# EAGLE library part XCV200E_FG456 (library xilinx-xcv)
xcv200e_fg456 edit this description Auto generated by make-symbol-device-package-bsdl.ulp Rev. 26 Source: xcv200e_fg456.bsd
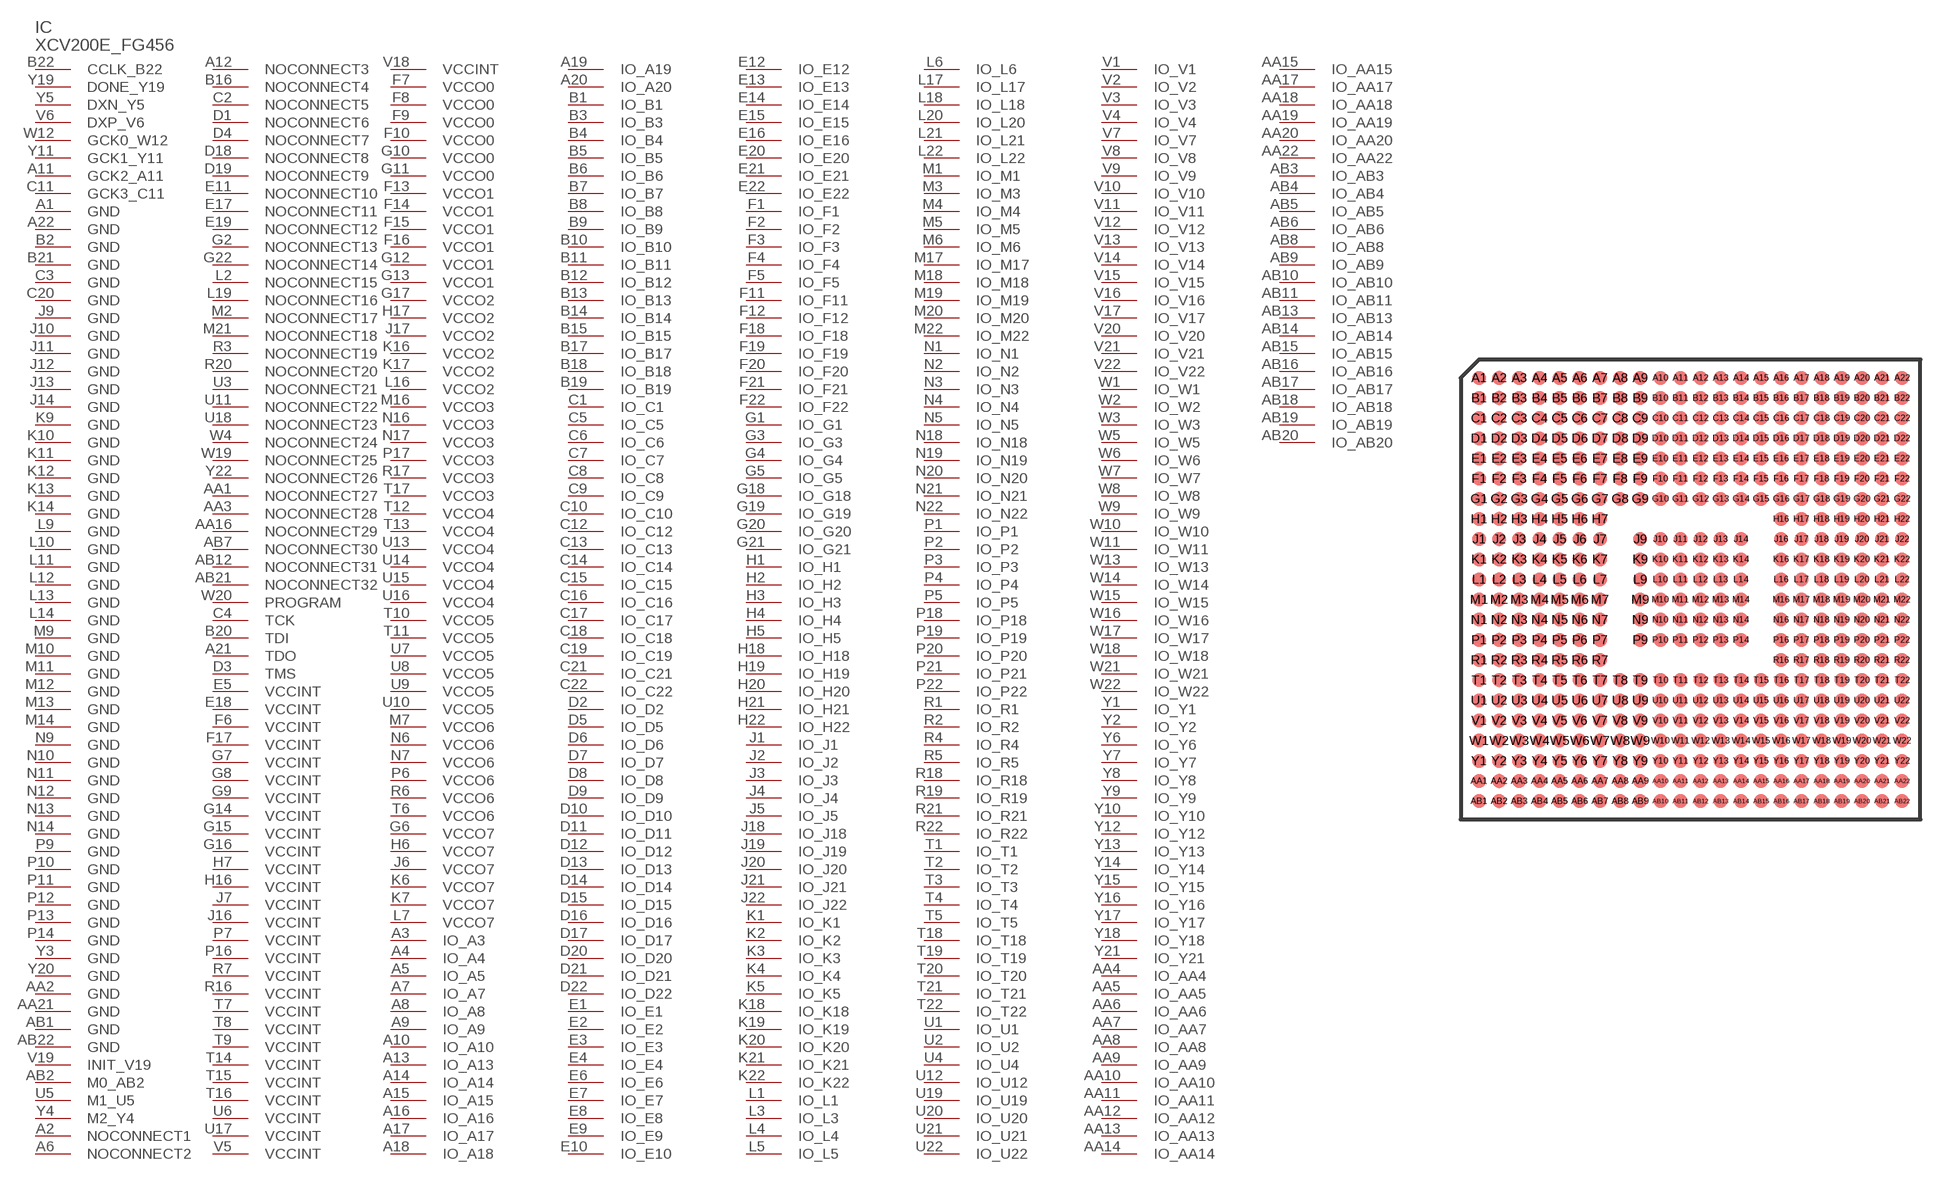
[diagram p58: symbol with the pads of FG456; footprint FG456]

Designator prefix IC

## XCV200E_FG456 (OC_FARNELL: unknown; OC_NEWARK: unknown)  [FG456]
A1  GND  pwr
A2  NOCONNECT1  pas
A3  IO_A3
A4  IO_A4
A5  IO_A5
A6  NOCONNECT2  pas
A7  IO_A7
A8  IO_A8
A9  IO_A9
A10  IO_A10
A11  GCK2_A11  in
A12  NOCONNECT3  pas
A13  IO_A13
A14  IO_A14
A15  IO_A15
A16  IO_A16
A17  IO_A17
A18  IO_A18
A19  IO_A19
A20  IO_A20
A21  TDO  out
A22  GND  pwr
AA1  NOCONNECT27  pas
AA2  GND  pwr
AA3  NOCONNECT28  pas
AA4  IO_AA4
AA5  IO_AA5
AA6  IO_AA6
AA7  IO_AA7
AA8  IO_AA8
AA9  IO_AA9
AA10  IO_AA10
AA11  IO_AA11
AA12  IO_AA12
AA13  IO_AA13
AA14  IO_AA14
AA15  IO_AA15
AA16  NOCONNECT29  pas
AA17  IO_AA17
AA18  IO_AA18
AA19  IO_AA19
AA20  IO_AA20
AA21  GND  pwr
AA22  IO_AA22
AB1  GND  pwr
AB2  M0_AB2  in
AB3  IO_AB3
AB4  IO_AB4
AB5  IO_AB5
AB6  IO_AB6
AB7  NOCONNECT30  pas
AB8  IO_AB8
AB9  IO_AB9
AB10  IO_AB10
AB11  IO_AB11
AB12  NOCONNECT31  pas
AB13  IO_AB13
AB14  IO_AB14
AB15  IO_AB15
AB16  IO_AB16
AB17  IO_AB17
AB18  IO_AB18
AB19  IO_AB19
AB20  IO_AB20
AB21  NOCONNECT32  pas
AB22  GND  pwr
B1  IO_B1
B2  GND  pwr
B3  IO_B3
B4  IO_B4
B5  IO_B5
B6  IO_B6
B7  IO_B7
B8  IO_B8
B9  IO_B9
B10  IO_B10
B11  IO_B11
B12  IO_B12
B13  IO_B13
B14  IO_B14
B15  IO_B15
B16  NOCONNECT4  pas
B17  IO_B17
B18  IO_B18
B19  IO_B19
B20  TDI  in
B21  GND  pwr
B22  CCLK_B22
C1  IO_C1
C2  NOCONNECT5  pas
C3  GND  pwr
C4  TCK  in
C5  IO_C5
C6  IO_C6
C7  IO_C7
C8  IO_C8
C9  IO_C9
C10  IO_C10
C11  GCK3_C11  in
C12  IO_C12
C13  IO_C13
C14  IO_C14
C15  IO_C15
C16  IO_C16
C17  IO_C17
C18  IO_C18
C19  IO_C19
C20  GND  pwr
C21  IO_C21
C22  IO_C22
D1  NOCONNECT6  pas
D2  IO_D2
D3  TMS  in
D4  NOCONNECT7  pas
D5  IO_D5
D6  IO_D6
D7  IO_D7
D8  IO_D8
D9  IO_D9
D10  IO_D10
D11  IO_D11
D12  IO_D12
D13  IO_D13
D14  IO_D14
D15  IO_D15
D16  IO_D16
D17  IO_D17
D18  NOCONNECT8  pas
D19  NOCONNECT9  pas
D20  IO_D20
D21  IO_D21
D22  IO_D22
E1  IO_E1
E2  IO_E2
E3  IO_E3
E4  IO_E4
E5  VCCINT  pwr
E6  IO_E6
E7  IO_E7
E8  IO_E8
E9  IO_E9
E10  IO_E10
E11  NOCONNECT10  pas
E12  IO_E12
E13  IO_E13
E14  IO_E14
E15  IO_E15
E16  IO_E16
E17  NOCONNECT11  pas
E18  VCCINT  pwr
E19  NOCONNECT12  pas
E20  IO_E20
E21  IO_E21
E22  IO_E22
F1  IO_F1
F2  IO_F2
F3  IO_F3
F4  IO_F4
F5  IO_F5
F6  VCCINT  pwr
F7  VCCO0  pwr
F8  VCCO0  pwr
F9  VCCO0  pwr
F10  VCCO0  pwr
F11  IO_F11
F12  IO_F12
F13  VCCO1  pwr
F14  VCCO1  pwr
F15  VCCO1  pwr
F16  VCCO1  pwr
F17  VCCINT  pwr
F18  IO_F18
F19  IO_F19
F20  IO_F20
F21  IO_F21
F22  IO_F22
G1  IO_G1
G2  NOCONNECT13  pas
G3  IO_G3
G4  IO_G4
G5  IO_G5
G6  VCCO7  pwr
G7  VCCINT  pwr
G8  VCCINT  pwr
G9  VCCINT  pwr
G10  VCCO0  pwr
G11  VCCO0  pwr
G12  VCCO1  pwr
G13  VCCO1  pwr
G14  VCCINT  pwr
G15  VCCINT  pwr
G16  VCCINT  pwr
G17  VCCO2  pwr
G18  IO_G18
G19  IO_G19
G20  IO_G20
G21  IO_G21
G22  NOCONNECT14  pas
H1  IO_H1
H2  IO_H2
H3  IO_H3
H4  IO_H4
H5  IO_H5
H6  VCCO7  pwr
H7  VCCINT  pwr
H16  VCCINT  pwr
H17  VCCO2  pwr
H18  IO_H18
H19  IO_H19
H20  IO_H20
H21  IO_H21
H22  IO_H22
J1  IO_J1
J2  IO_J2
J3  IO_J3
J4  IO_J4
J5  IO_J5
J6  VCCO7  pwr
J7  VCCINT  pwr
J9  GND  pwr
J10  GND  pwr
J11  GND  pwr
J12  GND  pwr
J13  GND  pwr
J14  GND  pwr
J16  VCCINT  pwr
J17  VCCO2  pwr
J18  IO_J18
J19  IO_J19
J20  IO_J20
J21  IO_J21
J22  IO_J22
K1  IO_K1
K2  IO_K2
K3  IO_K3
K4  IO_K4
K5  IO_K5
K6  VCCO7  pwr
K7  VCCO7  pwr
K9  GND  pwr
K10  GND  pwr
K11  GND  pwr
K12  GND  pwr
K13  GND  pwr
K14  GND  pwr
K16  VCCO2  pwr
K17  VCCO2  pwr
K18  IO_K18
K19  IO_K19
K20  IO_K20
K21  IO_K21
K22  IO_K22
L1  IO_L1
L2  NOCONNECT15  pas
L3  IO_L3
L4  IO_L4
L5  IO_L5
L6  IO_L6
L7  VCCO7  pwr
L9  GND  pwr
L10  GND  pwr
L11  GND  pwr
L12  GND  pwr
L13  GND  pwr
L14  GND  pwr
L16  VCCO2  pwr
L17  IO_L17
L18  IO_L18
L19  NOCONNECT16  pas
L20  IO_L20
L21  IO_L21
L22  IO_L22
M1  IO_M1
M2  NOCONNECT17  pas
M3  IO_M3
M4  IO_M4
M5  IO_M5
M6  IO_M6
M7  VCCO6  pwr
M9  GND  pwr
M10  GND  pwr
M11  GND  pwr
M12  GND  pwr
M13  GND  pwr
M14  GND  pwr
M16  VCCO3  pwr
M17  IO_M17
M18  IO_M18
M19  IO_M19
M20  IO_M20
M21  NOCONNECT18  pas
M22  IO_M22
N1  IO_N1
N2  IO_N2
N3  IO_N3
N4  IO_N4
N5  IO_N5
N6  VCCO6  pwr
N7  VCCO6  pwr
N9  GND  pwr
N10  GND  pwr
N11  GND  pwr
N12  GND  pwr
N13  GND  pwr
N14  GND  pwr
N16  VCCO3  pwr
N17  VCCO3  pwr
N18  IO_N18
N19  IO_N19
N20  IO_N20
N21  IO_N21
N22  IO_N22
P1  IO_P1
P2  IO_P2
P3  IO_P3
P4  IO_P4
P5  IO_P5
P6  VCCO6  pwr
P7  VCCINT  pwr
P9  GND  pwr
P10  GND  pwr
P11  GND  pwr
P12  GND  pwr
P13  GND  pwr
P14  GND  pwr
P16  VCCINT  pwr
P17  VCCO3  pwr
P18  IO_P18
P19  IO_P19
P20  IO_P20
P21  IO_P21
P22  IO_P22
R1  IO_R1
R2  IO_R2
R3  NOCONNECT19  pas
R4  IO_R4
R5  IO_R5
R6  VCCO6  pwr
R7  VCCINT  pwr
R16  VCCINT  pwr
R17  VCCO3  pwr
R18  IO_R18
R19  IO_R19
R20  NOCONNECT20  pas
R21  IO_R21
R22  IO_R22
T1  IO_T1
T2  IO_T2
T3  IO_T3
T4  IO_T4
T5  IO_T5
T6  VCCO6  pwr
T7  VCCINT  pwr
T8  VCCINT  pwr
T9  VCCINT  pwr
T10  VCCO5  pwr
T11  VCCO5  pwr
T12  VCCO4  pwr
T13  VCCO4  pwr
T14  VCCINT  pwr
T15  VCCINT  pwr
T16  VCCINT  pwr
T17  VCCO3  pwr
T18  IO_T18
T19  IO_T19
T20  IO_T20
T21  IO_T21
T22  IO_T22
U1  IO_U1
U2  IO_U2
U3  NOCONNECT21  pas
U4  IO_U4
U5  M1_U5  in
U6  VCCINT  pwr
U7  VCCO5  pwr
U8  VCCO5  pwr
U9  VCCO5  pwr
U10  VCCO5  pwr
U11  NOCONNECT22  pas
U12  IO_U12
U13  VCCO4  pwr
U14  VCCO4  pwr
U15  VCCO4  pwr
U16  VCCO4  pwr
U17  VCCINT  pwr
U18  NOCONNECT23  pas
U19  IO_U19
U20  IO_U20
U21  IO_U21
U22  IO_U22
V1  IO_V1
V2  IO_V2
V3  IO_V3
V4  IO_V4
V5  VCCINT  pwr
V6  DXP_V6  pas
V7  IO_V7
V8  IO_V8
V9  IO_V9
V10  IO_V10
V11  IO_V11
V12  IO_V12
V13  IO_V13
V14  IO_V14
V15  IO_V15
V16  IO_V16
V17  IO_V17
V18  VCCINT  pwr
V19  INIT_V19
V20  IO_V20
V21  IO_V21
V22  IO_V22
W1  IO_W1
W2  IO_W2
W3  IO_W3
W4  NOCONNECT24  pas
W5  IO_W5
W6  IO_W6
W7  IO_W7
W8  IO_W8
W9  IO_W9
W10  IO_W10
W11  IO_W11
W12  GCK0_W12  in
W13  IO_W13
W14  IO_W14
W15  IO_W15
W16  IO_W16
W17  IO_W17
W18  IO_W18
W19  NOCONNECT25  pas
W20  PROGRAM  in
W21  IO_W21
W22  IO_W22
Y1  IO_Y1
Y2  IO_Y2
Y3  GND  pwr
Y4  M2_Y4  in
Y5  DXN_Y5  pas
Y6  IO_Y6
Y7  IO_Y7
Y8  IO_Y8
Y9  IO_Y9
Y10  IO_Y10
Y11  GCK1_Y11  in
Y12  IO_Y12
Y13  IO_Y13
Y14  IO_Y14
Y15  IO_Y15
Y16  IO_Y16
Y17  IO_Y17
Y18  IO_Y18
Y19  DONE_Y19
Y20  GND  pwr
Y21  IO_Y21
Y22  NOCONNECT26  pas

## Footprint FG456 (pad centres in mm)
xcv150_fg456 edit this description Auto generated by make-symbol-device-package-bsdl.ulp Rev. 26 Source: xcv150_fg456.bsd
smd 0.7 x 0.7: A1 -10.5,10.5; A2 -9.5,10.5; A3 -8.5,10.5; A4 -7.5,10.5; A5 -6.5,10.5; A6 -5.5,10.5; A7 -4.5,10.5; A8 -3.5,10.5; A9 -2.5,10.5; A10 -1.5,10.5; A11 -0.5,10.5; A12 0.5,10.5; A13 1.5,10.5; A14 2.5,10.5; A15 3.5,10.5; A16 4.5,10.5; A17 5.5,10.5; A18 6.5,10.5; A19 7.5,10.5; A20 8.5,10.5; A21 9.5,10.5; A22 10.5,10.5; AA1 -10.5,-9.5; AA2 -9.5,-9.5; AA3 -8.5,-9.5; AA4 -7.5,-9.5; AA5 -6.5,-9.5; AA6 -5.5,-9.5; AA7 -4.5,-9.5; AA8 -3.5,-9.5; AA9 -2.5,-9.5; AA10 -1.5,-9.5; AA11 -0.5,-9.5; AA12 0.5,-9.5; AA13 1.5,-9.5; AA14 2.5,-9.5; AA15 3.5,-9.5; AA16 4.5,-9.5; AA17 5.5,-9.5; AA18 6.5,-9.5; AA19 7.5,-9.5; AA20 8.5,-9.5; AA21 9.5,-9.5; AA22 10.5,-9.5; AB1 -10.5,-10.5; AB2 -9.5,-10.5; AB3 -8.5,-10.5; AB4 -7.5,-10.5; AB5 -6.5,-10.5; AB6 -5.5,-10.5; AB7 -4.5,-10.5; AB8 -3.5,-10.5; AB9 -2.5,-10.5; AB10 -1.5,-10.5; AB11 -0.5,-10.5; AB12 0.5,-10.5; AB13 1.5,-10.5; AB14 2.5,-10.5; AB15 3.5,-10.5; AB16 4.5,-10.5; AB17 5.5,-10.5; AB18 6.5,-10.5; AB19 7.5,-10.5; AB20 8.5,-10.5; AB21 9.5,-10.5; AB22 10.5,-10.5; B1 -10.5,9.5; B2 -9.5,9.5; B3 -8.5,9.5; B4 -7.5,9.5; B5 -6.5,9.5; B6 -5.5,9.5; B7 -4.5,9.5; B8 -3.5,9.5; B9 -2.5,9.5; B10 -1.5,9.5; B11 -0.5,9.5; B12 0.5,9.5; B13 1.5,9.5; B14 2.5,9.5; B15 3.5,9.5; B16 4.5,9.5; B17 5.5,9.5; B18 6.5,9.5; B19 7.5,9.5; B20 8.5,9.5; B21 9.5,9.5; B22 10.5,9.5; C1 -10.5,8.5; C2 -9.5,8.5; C3 -8.5,8.5; C4 -7.5,8.5; C5 -6.5,8.5; C6 -5.5,8.5; C7 -4.5,8.5; C8 -3.5,8.5; C9 -2.5,8.5; C10 -1.5,8.5; C11 -0.5,8.5; C12 0.5,8.5; C13 1.5,8.5; C14 2.5,8.5; C15 3.5,8.5; C16 4.5,8.5; C17 5.5,8.5; C18 6.5,8.5; C19 7.5,8.5; C20 8.5,8.5; C21 9.5,8.5; C22 10.5,8.5; D1 -10.5,7.5; D2 -9.5,7.5; D3 -8.5,7.5; D4 -7.5,7.5; D5 -6.5,7.5; D6 -5.5,7.5; D7 -4.5,7.5; D8 -3.5,7.5; D9 -2.5,7.5; D10 -1.5,7.5; D11 -0.5,7.5; D12 0.5,7.5; D13 1.5,7.5; D14 2.5,7.5; D15 3.5,7.5; D16 4.5,7.5; D17 5.5,7.5; D18 6.5,7.5; D19 7.5,7.5; D20 8.5,7.5; D21 9.5,7.5; D22 10.5,7.5; E1 -10.5,6.5; E2 -9.5,6.5; E3 -8.5,6.5; E4 -7.5,6.5; E5 -6.5,6.5; E6 -5.5,6.5; E7 -4.5,6.5; E8 -3.5,6.5; E9 -2.5,6.5; E10 -1.5,6.5; E11 -0.5,6.5; E12 0.5,6.5; E13 1.5,6.5; E14 2.5,6.5; E15 3.5,6.5; E16 4.5,6.5; E17 5.5,6.5; E18 6.5,6.5; E19 7.5,6.5; E20 8.5,6.5; E21 9.5,6.5; E22 10.5,6.5; F1 -10.5,5.5; F2 -9.5,5.5; F3 -8.5,5.5; F4 -7.5,5.5; F5 -6.5,5.5; F6 -5.5,5.5; F7 -4.5,5.5; F8 -3.5,5.5; F9 -2.5,5.5; F10 -1.5,5.5; F11 -0.5,5.5; F12 0.5,5.5; F13 1.5,5.5; F14 2.5,5.5; F15 3.5,5.5; F16 4.5,5.5; F17 5.5,5.5; F18 6.5,5.5; F19 7.5,5.5; F20 8.5,5.5; F21 9.5,5.5; F22 10.5,5.5; G1 -10.5,4.5; G2 -9.5,4.5; G3 -8.5,4.5; G4 -7.5,4.5; G5 -6.5,4.5; G6 -5.5,4.5; G7 -4.5,4.5; G8 -3.5,4.5; G9 -2.5,4.5; G10 -1.5,4.5; G11 -0.5,4.5; G12 0.5,4.5; G13 1.5,4.5; G14 2.5,4.5; G15 3.5,4.5; G16 4.5,4.5; G17 5.5,4.5; G18 6.5,4.5; G19 7.5,4.5; G20 8.5,4.5; G21 9.5,4.5; G22 10.5,4.5; H1 -10.5,3.5; H2 -9.5,3.5; H3 -8.5,3.5; H4 -7.5,3.5; H5 -6.5,3.5; H6 -5.5,3.5; H7 -4.5,3.5; H16 4.5,3.5; H17 5.5,3.5; H18 6.5,3.5; H19 7.5,3.5; H20 8.5,3.5; H21 9.5,3.5; H22 10.5,3.5; J1 -10.5,2.5; J2 -9.5,2.5; J3 -8.5,2.5; J4 -7.5,2.5; J5 -6.5,2.5; J6 -5.5,2.5; J7 -4.5,2.5; J9 -2.5,2.5; J10 -1.5,2.5; J11 -0.5,2.5; J12 0.5,2.5; J13 1.5,2.5; J14 2.5,2.5; J16 4.5,2.5; J17 5.5,2.5; J18 6.5,2.5; J19 7.5,2.5; J20 8.5,2.5; J21 9.5,2.5; J22 10.5,2.5; K1 -10.5,1.5; K2 -9.5,1.5; K3 -8.5,1.5; K4 -7.5,1.5; K5 -6.5,1.5; K6 -5.5,1.5; K7 -4.5,1.5; K9 -2.5,1.5; K10 -1.5,1.5; K11 -0.5,1.5; K12 0.5,1.5; K13 1.5,1.5; K14 2.5,1.5; K16 4.5,1.5; K17 5.5,1.5; K18 6.5,1.5; K19 7.5,1.5; K20 8.5,1.5; K21 9.5,1.5; K22 10.5,1.5; L1 -10.5,0.5; L2 -9.5,0.5; L3 -8.5,0.5; L4 -7.5,0.5; L5 -6.5,0.5; L6 -5.5,0.5; L7 -4.5,0.5; L9 -2.5,0.5; L10 -1.5,0.5; L11 -0.5,0.5; L12 0.5,0.5; L13 1.5,0.5; L14 2.5,0.5; L16 4.5,0.5; L17 5.5,0.5; L18 6.5,0.5; L19 7.5,0.5; L20 8.5,0.5; L21 9.5,0.5; L22 10.5,0.5; M1 -10.5,-0.5; M2 -9.5,-0.5; M3 -8.5,-0.5; M4 -7.5,-0.5; M5 -6.5,-0.5; M6 -5.5,-0.5; M7 -4.5,-0.5; M9 -2.5,-0.5; M10 -1.5,-0.5; M11 -0.5,-0.5; M12 0.5,-0.5; M13 1.5,-0.5; M14 2.5,-0.5; M16 4.5,-0.5; M17 5.5,-0.5; M18 6.5,-0.5; M19 7.5,-0.5; M20 8.5,-0.5; M21 9.5,-0.5; M22 10.5,-0.5; N1 -10.5,-1.5; N2 -9.5,-1.5; N3 -8.5,-1.5; N4 -7.5,-1.5; N5 -6.5,-1.5; N6 -5.5,-1.5; N7 -4.5,-1.5; N9 -2.5,-1.5; N10 -1.5,-1.5; N11 -0.5,-1.5; N12 0.5,-1.5; N13 1.5,-1.5; N14 2.5,-1.5; N16 4.5,-1.5; N17 5.5,-1.5; N18 6.5,-1.5; N19 7.5,-1.5; N20 8.5,-1.5; N21 9.5,-1.5; N22 10.5,-1.5; P1 -10.5,-2.5; P2 -9.5,-2.5; P3 -8.5,-2.5; P4 -7.5,-2.5; P5 -6.5,-2.5; P6 -5.5,-2.5; P7 -4.5,-2.5; P9 -2.5,-2.5; P10 -1.5,-2.5; P11 -0.5,-2.5; P12 0.5,-2.5; P13 1.5,-2.5; P14 2.5,-2.5; P16 4.5,-2.5; P17 5.5,-2.5; P18 6.5,-2.5; P19 7.5,-2.5; P20 8.5,-2.5; P21 9.5,-2.5; P22 10.5,-2.5; R1 -10.5,-3.5; R2 -9.5,-3.5; R3 -8.5,-3.5; R4 -7.5,-3.5; R5 -6.5,-3.5; R6 -5.5,-3.5; R7 -4.5,-3.5; R16 4.5,-3.5; R17 5.5,-3.5; R18 6.5,-3.5; R19 7.5,-3.5; R20 8.5,-3.5; R21 9.5,-3.5; R22 10.5,-3.5; T1 -10.5,-4.5; T2 -9.5,-4.5; T3 -8.5,-4.5; T4 -7.5,-4.5; T5 -6.5,-4.5; T6 -5.5,-4.5; T7 -4.5,-4.5; T8 -3.5,-4.5; T9 -2.5,-4.5; T10 -1.5,-4.5; T11 -0.5,-4.5; T12 0.5,-4.5; T13 1.5,-4.5; T14 2.5,-4.5; T15 3.5,-4.5; T16 4.5,-4.5; T17 5.5,-4.5; T18 6.5,-4.5; T19 7.5,-4.5; T20 8.5,-4.5; T21 9.5,-4.5; T22 10.5,-4.5; U1 -10.5,-5.5; U2 -9.5,-5.5; U3 -8.5,-5.5; U4 -7.5,-5.5; U5 -6.5,-5.5; U6 -5.5,-5.5; U7 -4.5,-5.5; U8 -3.5,-5.5; U9 -2.5,-5.5; U10 -1.5,-5.5; U11 -0.5,-5.5; U12 0.5,-5.5; U13 1.5,-5.5; U14 2.5,-5.5; U15 3.5,-5.5; U16 4.5,-5.5; U17 5.5,-5.5; U18 6.5,-5.5; U19 7.5,-5.5; U20 8.5,-5.5; U21 9.5,-5.5; U22 10.5,-5.5; V1 -10.5,-6.5; V2 -9.5,-6.5; V3 -8.5,-6.5; V4 -7.5,-6.5; V5 -6.5,-6.5; V6 -5.5,-6.5; V7 -4.5,-6.5; V8 -3.5,-6.5; V9 -2.5,-6.5; V10 -1.5,-6.5; V11 -0.5,-6.5; V12 0.5,-6.5; V13 1.5,-6.5; V14 2.5,-6.5; V15 3.5,-6.5; V16 4.5,-6.5; V17 5.5,-6.5; V18 6.5,-6.5; V19 7.5,-6.5; V20 8.5,-6.5; V21 9.5,-6.5; V22 10.5,-6.5; W1 -10.5,-7.5; W2 -9.5,-7.5; W3 -8.5,-7.5; W4 -7.5,-7.5; W5 -6.5,-7.5; W6 -5.5,-7.5; W7 -4.5,-7.5; W8 -3.5,-7.5; W9 -2.5,-7.5; W10 -1.5,-7.5; W11 -0.5,-7.5; W12 0.5,-7.5; W13 1.5,-7.5; W14 2.5,-7.5; W15 3.5,-7.5; W16 4.5,-7.5; W17 5.5,-7.5; W18 6.5,-7.5; W19 7.5,-7.5; W20 8.5,-7.5; W21 9.5,-7.5; W22 10.5,-7.5; Y1 -10.5,-8.5; Y2 -9.5,-8.5; Y3 -8.5,-8.5; Y4 -7.5,-8.5; Y5 -6.5,-8.5; Y6 -5.5,-8.5; Y7 -4.5,-8.5; Y8 -3.5,-8.5; Y9 -2.5,-8.5; Y10 -1.5,-8.5; Y11 -0.5,-8.5; Y12 0.5,-8.5; Y13 1.5,-8.5; Y14 2.5,-8.5; Y15 3.5,-8.5; Y16 4.5,-8.5; Y17 5.5,-8.5; Y18 6.5,-8.5; Y19 7.5,-8.5; Y20 8.5,-8.5; Y21 9.5,-8.5; Y22 10.5,-8.5